# Altium schematic symbol library CGA5L2X7R2A474K160AA.SchLib: 1 symbol
Pins are listed as number, name and electrical type; pins without a type are passive.

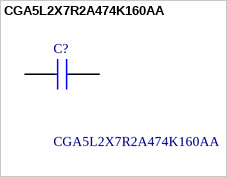
[diagram p0: symbol CGA5L2X7R2A474K160AA]

## CGA5L2X7R2A474K160AA
designator C?
TDK 3216 CGA 470nF Ceramic Multilayer Capacitor, 100 V dc, +125C, X7R Dielectric, +/-10%; Geometry.Height: 1.9mm; Mouser Part Number: 810-CGA5L2X7R2A474K; Mouser Price/Stock: https://www.mouser.co.uk/ProductDetail/TDK/CGA5L2X7R2A474K160AA?qs=NRhsANhppD%252BXXskeAHmLMQ%3D%3D; Manufacturer_Name: TDK; Manufacturer_Part_Number: CGA5L2X7R2A474K160AA; Datasheet Link: *
footprint CAPC3216X190N
pins: 1, 2